# Altium integrated library TI Amplifiers and Linear Operational Amplifier Precision Amplifier Part Two.IntLib: 2300 symbols (part 25 of 81)
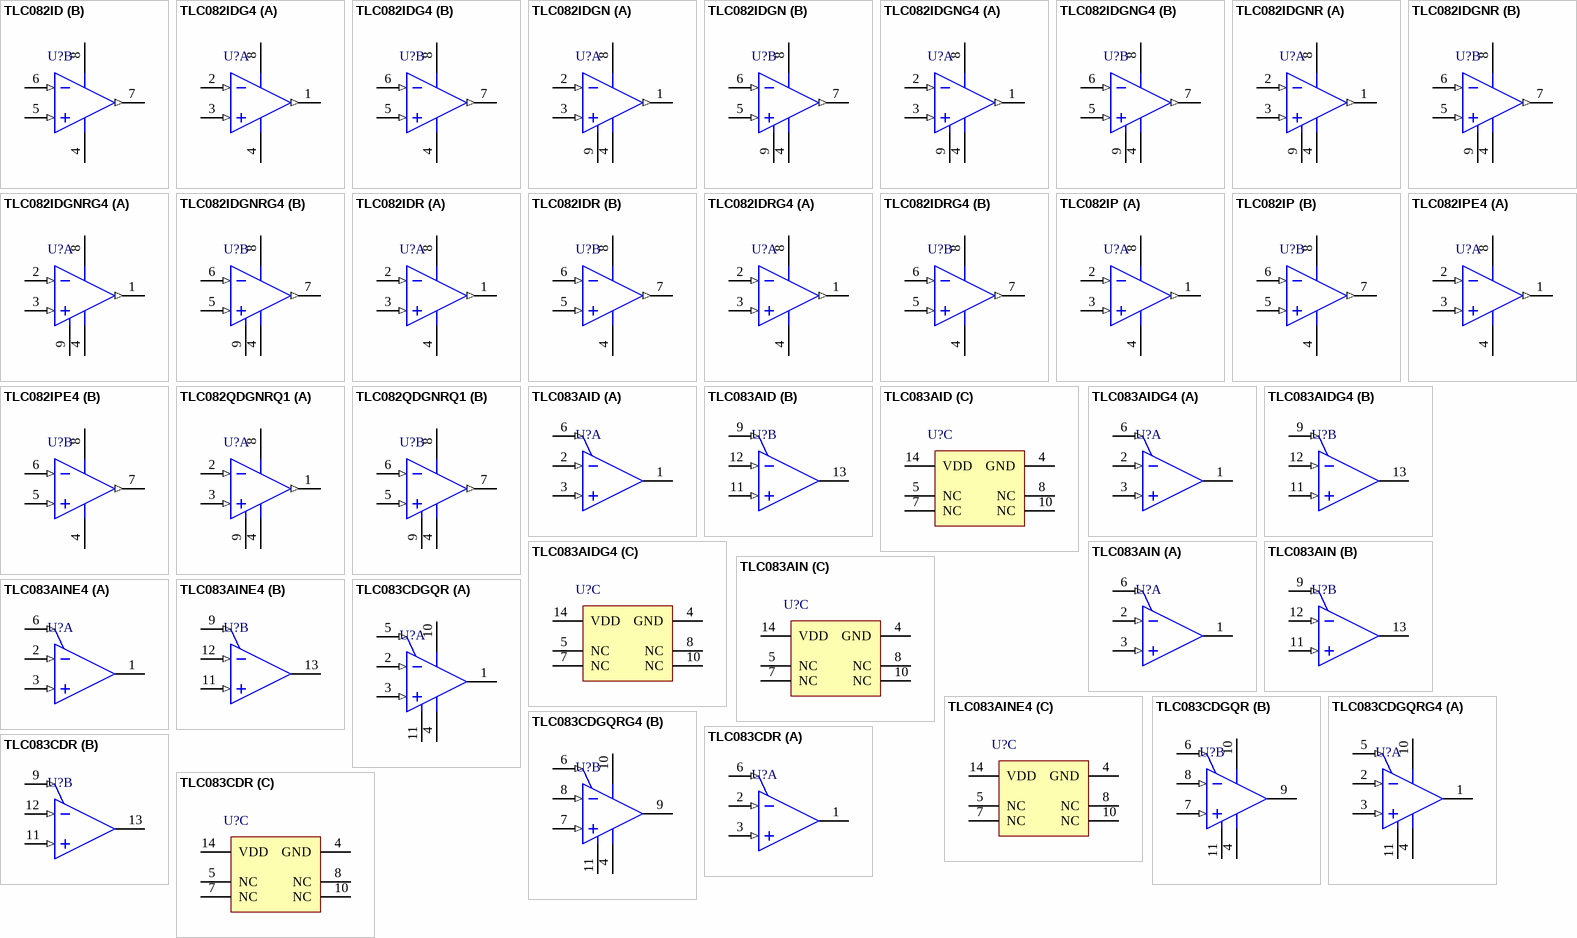
[diagram p160: symbols TLC082ID to TLC083CDR]

## TLC083AIN
designator U?
Dual Wide Bandwidth High Output Drive Single Supply Operational Amplifier with Shutdown, 4.5 to 16 V, -40 to 125 degC, 14-pin DIP (N14), Pb-Free (RoHS); Manufacturer: Texas Instruments; PartNumber: TLC083AIN; CMRR(Min)(dB): 80; GBW(Typ)(MHz): 10; IIB(Max)(pA): 50; Iq per channel(Max)(mA): 2.5; Number of Channels: 2; Offset Drift(Typ)(uV/C): 1.2; Packing: TUBE; Rating: Catalog; Slew Rate(Typ)(V/us): 16; Sub Family: High Output Current Amplifier (>=50mA), Low Noise Amp (<=10nV/rtHz), Precision Amplifier; Total Supply Voltage(Min)(+5V is 5, +/-5V is 10): 4.5; Vio (25C)(Max)(mV): 1.4; DatasheetVersion: SLOS254F; PackageVersion: 4040049/E, 12/2002; PackageReference: N14; PackageDescription: 14-Pin Plastic In-Line, Body 19.305 x 6.35 mm, Pitch 2.54 mm; Supplier 1: Digi-Key; Supplier Part Number 1: 296-7274-5-ND; Supplier 2: Mouser; Supplier Part Number 2: 595-TLC083AIN; Eco-Plan: Pb-Free (RoHS); Total Supply Voltage(Max)(+5V is 5, +/-5V is 10): 16; Mounting Technology: Through Hole; Code_JEDEC: MS-001; ComponentLink1Description: Manufacturer URL; ComponentLink1URL: http://www.ti.com/; ComponentLink2Description: Datasheet; ComponentLink2URL: http://www.ti.com/lit/ds/symlink/tlc083a.pdf; ComponentLink3Description: Package Specification; ComponentLink3URL: http://www.ti.com/lit/ml/mpdi002c/mpdi002c.pdf
footprint TI-N14 (DIP, 14-Leads, Body 19.305x6.35 mm, Pitch 2.54 mm)
part A pins: 1 OUT1 (hiz), 2 IN1- (in), 3 IN1+ (in), 6 ~{SHDN1} (in)
part B pins: 9 ~{SHDN2} (in), 11 IN2+ (in), 12 IN2- (in), 13 OUT2 (hiz)
part C pins: 4 GND (power), 5 NC, 7 NC, 8 NC, 10 NC, 14 VDD (power)

## TLC083AINE4
designator U?
Dual Wide Bandwidth High Output Drive Single Supply Operational Amplifier with Shutdown, 4.5 to 16 V, -40 to 125 degC, 14-pin DIP (N14), Pb-Free (RoHS); Manufacturer: Texas Instruments; PartNumber: TLC083AINE4; CMRR(Min)(dB): 80; GBW(Typ)(MHz): 10; IIB(Max)(pA): 50; Iq per channel(Max)(mA): 2.5; Number of Channels: 2; Offset Drift(Typ)(uV/C): 1.2; Packing: TUBE; Rating: Catalog; Slew Rate(Typ)(V/us): 16; Sub Family: High Output Current Amplifier (>=50mA), Low Noise Amp (<=10nV/rtHz), Precision Amplifier; Total Supply Voltage(Min)(+5V is 5, +/-5V is 10): 4.5; Vio (25C)(Max)(mV): 1.4; DatasheetVersion: SLOS254F; PackageVersion: 4040049/E, 12/2002; PackageReference: N14; PackageDescription: 14-Pin Plastic In-Line, Body 19.305 x 6.35 mm, Pitch 2.54 mm; Supplier 1: Digi-Key; Supplier Part Number 1: TLC083AINE4-ND; Supplier 2: Mouser; Supplier Part Number 2: 595-TLC083AINE4; Eco-Plan: Pb-Free (RoHS); Total Supply Voltage(Max)(+5V is 5, +/-5V is 10): 16; Mounting Technology: Through Hole; Code_JEDEC: MS-001; ComponentLink1Description: Manufacturer URL; ComponentLink1URL: http://www.ti.com/; ComponentLink2Description: Datasheet; ComponentLink2URL: http://www.ti.com/lit/ds/symlink/tlc083a.pdf; ComponentLink3Description: Package Specification; ComponentLink3URL: http://www.ti.com/lit/ml/mpdi002c/mpdi002c.pdf
footprint TI-N14 (DIP, 14-Leads, Body 19.305x6.35 mm, Pitch 2.54 mm)
part A pins: 1 OUT1 (hiz), 2 IN1- (in), 3 IN1+ (in), 6 ~{SHDN1} (in)
part B pins: 9 ~{SHDN2} (in), 11 IN2+ (in), 12 IN2- (in), 13 OUT2 (hiz)
part C pins: 4 GND (power), 5 NC, 7 NC, 8 NC, 10 NC, 14 VDD (power)

## TLC083CDGQR
designator U?
Dual Wide Bandwidth High Output Drive Single Supply Operational Amplifier with Shutdown, 4.5 to 16 V, 0 to 70 degC, 10-pin SOP (DGQ10), Green (RoHS & no Sb/Br); Manufacturer: Texas Instruments; PartNumber: TLC083CDGQR; CMRR(Min)(dB): 80; GBW(Typ)(MHz): 10; IIB(Max)(pA): 50; Iq per channel(Max)(mA): 2.5; Number of Channels: 2; Offset Drift(Typ)(uV/C): 1.2; Packing: LARGE T&R; Rating: Catalog; Slew Rate(Typ)(V/us): 16; Sub Family: High Output Current Amplifier (>=50mA), Low Noise Amp (<=10nV/rtHz), Precision Amplifier; Total Supply Voltage(Min)(+5V is 5, +/-5V is 10): 4.5; Vio (25C)(Max)(mV): 1.9; DatasheetVersion: SLOS254F; PackageVersion: 4073273/F, 11/2011; PackageReference: DGQ10-1675X1445TP; PackageDescription: 10-Pin Plastic Small Outline, Body 3 x 3 mm, Pitch 0.5 mm; Supplier 1: Digi-Key; Supplier Part Number 1: 296-7275-2-ND; Supplier 2: Digi-Key; Supplier Part Number 2: 296-7275-1-ND; Supplier 3: Digi-Key; Supplier Part Number 3: 296-7275-6-ND; Supplier 4: Newark; Supplier Part Number 4: 76C6744; Supplier 5: Mouser; Supplier Part Number 5: 595-TLC083CDGQR; Eco-Plan: Green (RoHS & no Sb/Br); Total Supply Voltage(Max)(+5V is 5, +/-5V is 10): 16; Mounting Technology: Surface Mount; Code_JEDEC: MO-187; ComponentLink1Description: Manufacturer URL; ComponentLink1URL: http://www.ti.com/; ComponentLink2Description: Datasheet; ComponentLink2URL: http://www.ti.com/lit/ds/symlink/tlc083.pdf; ComponentLink3Description: Package Specification; ComponentLink3URL: http://www.ti.com/litv/pdf/mpds043e
footprint TI-DGQ10-1675X1445TP_N (SOP, 10-Leads, Body 3x3mm, Pitch 0.5mm, Thermal Pad 1.88x1.57mm, IPC Medium Density)
footprint TI-DGQ10-1675X1445TP_L (SOP, 10-Leads, Body 3x3mm, Pitch 0.5mm, Thermal Pad 1.88x1.57mm, IPC High Density)
footprint TI-DGQ10-1675X1445TP_M (SOP, 10-Leads, Body 3x3mm, Pitch 0.5mm, Thermal Pad 1.88x1.57mm, IPC Low Density)
pins on every part: 4 GND (power), 10 VDD (power), 11 EP (power)
part A pins: 1 OUT1 (hiz), 2 IN1- (in), 3 IN1+ (in), 5 ~{SHDN1} (in)
part B pins: 6 ~{SHDN2} (in), 7 IN2+ (in), 8 IN2- (in), 9 OUT2 (hiz)

## TLC083CDGQRG4
designator U?
Dual Wide Bandwidth High Output Drive Single Supply Operational Amplifier with Shutdown, 4.5 to 16 V, 0 to 70 degC, 10-pin SOP (DGQ10), Green (RoHS & no Sb/Br); Manufacturer: Texas Instruments; PartNumber: TLC083CDGQRG4; CMRR(Min)(dB): 80; GBW(Typ)(MHz): 10; IIB(Max)(pA): 50; Iq per channel(Max)(mA): 2.5; Number of Channels: 2; Offset Drift(Typ)(uV/C): 1.2; Packing: LARGE T&R; Rating: Catalog; Slew Rate(Typ)(V/us): 16; Sub Family: High Output Current Amplifier (>=50mA), Low Noise Amp (<=10nV/rtHz), Precision Amplifier; Total Supply Voltage(Min)(+5V is 5, +/-5V is 10): 4.5; Vio (25C)(Max)(mV): 1.9; DatasheetVersion: SLOS254F; PackageVersion: 4073273/F, 11/2011; PackageReference: DGQ10-1675X1445TP; PackageDescription: 10-Pin Plastic Small Outline, Body 3 x 3 mm, Pitch 0.5 mm; Supplier 1: Digi-Key; Supplier Part Number 1: TLC083CDGQRG4-ND; Supplier 2: Mouser; Supplier Part Number 2: 595-TLC083CDGQRG4; Eco-Plan: Green (RoHS & no Sb/Br); Total Supply Voltage(Max)(+5V is 5, +/-5V is 10): 16; Mounting Technology: Surface Mount; Code_JEDEC: MO-187; ComponentLink1Description: Manufacturer URL; ComponentLink1URL: http://www.ti.com/; ComponentLink2Description: Datasheet; ComponentLink2URL: http://www.ti.com/lit/ds/symlink/tlc083.pdf; ComponentLink3Description: Package Specification; ComponentLink3URL: http://www.ti.com/litv/pdf/mpds043e
footprint TI-DGQ10-1675X1445TP_N (SOP, 10-Leads, Body 3x3mm, Pitch 0.5mm, Thermal Pad 1.88x1.57mm, IPC Medium Density)
footprint TI-DGQ10-1675X1445TP_L (SOP, 10-Leads, Body 3x3mm, Pitch 0.5mm, Thermal Pad 1.88x1.57mm, IPC High Density)
footprint TI-DGQ10-1675X1445TP_M (SOP, 10-Leads, Body 3x3mm, Pitch 0.5mm, Thermal Pad 1.88x1.57mm, IPC Low Density)
pins on every part: 4 GND (power), 10 VDD (power), 11 EP (power)
part A pins: 1 OUT1 (hiz), 2 IN1- (in), 3 IN1+ (in), 5 ~{SHDN1} (in)
part B pins: 6 ~{SHDN2} (in), 7 IN2+ (in), 8 IN2- (in), 9 OUT2 (hiz)

## TLC083CDR
designator U?
Dual Wide Bandwidth High Output Drive Single Supply Operational Amplifier with Shutdown, 4.5 to 16 V, 0 to 70 degC, 14-pin SOIC (D14), Green (RoHS & no Sb/Br); Manufacturer: Texas Instruments; PartNumber: TLC083CDR; CMRR(Min)(dB): 80; GBW(Typ)(MHz): 10; IIB(Max)(pA): 50; Iq per channel(Max)(mA): 2.5; Number of Channels: 2; Offset Drift(Typ)(uV/C): 1.2; Packing: LARGE T&R; Rating: Catalog; Slew Rate(Typ)(V/us): 16; Sub Family: High Output Current Amplifier (>=50mA), Low Noise Amp (<=10nV/rtHz), Precision Amplifier; Total Supply Voltage(Min)(+5V is 5, +/-5V is 10): 4.5; Vio (25C)(Max)(mV): 1.9; DatasheetVersion: SLOS254F; PackageVersion: 4040047-5/M, 06/2011; PackageReference: D14; PackageDescription: 14-Pin Plastic Small Outline, Body 8.65 x 3.9 mm, Pitch 1.27 mm; Supplier 1: Digi-Key; Supplier Part Number 1: 296-2422-2-ND; Supplier 2: Digi-Key; Supplier Part Number 2: 296-2422-1-ND; Supplier 3: Digi-Key; Supplier Part Number 3: 296-2422-6-ND; Supplier 4: Mouser; Supplier Part Number 4: 595-TLC083CDR; Eco-Plan: Green (RoHS & no Sb/Br); Total Supply Voltage(Max)(+5V is 5, +/-5V is 10): 16; Mounting Technology: Surface Mount; Code_JEDEC: MS-012; ComponentLink1Description: Manufacturer URL; ComponentLink1URL: http://www.ti.com/; ComponentLink2Description: Datasheet; ComponentLink2URL: http://www.ti.com/lit/ds/symlink/tlc083.pdf; ComponentLink3Description: Package Specification; ComponentLink3URL: http://www.ti.com/lit/ml/mpds177g/mpds177g.pdf
footprint TI-D14_N (SOIC, 14-Leads, Body 8.65x3.9mm, Pitch 1.27mm, IPC Medium Density)
footprint TI-D14_L (SOIC, 14-Leads, Body 8.65x3.9mm, Pitch 1.27mm, IPC High Density)
footprint TI-D14_M (SOIC, 14-Leads, Body 8.65x3.9mm, Pitch 1.27mm, IPC Low Density)
part A pins: 1 OUT1 (hiz), 2 IN1- (in), 3 IN1+ (in), 6 ~{SHDN1} (in)
part B pins: 9 ~{SHDN2} (in), 11 IN2+ (in), 12 IN2- (in), 13 OUT2 (hiz)
part C pins: 4 GND (power), 5 NC, 7 NC, 8 NC, 10 NC, 14 VDD (power)

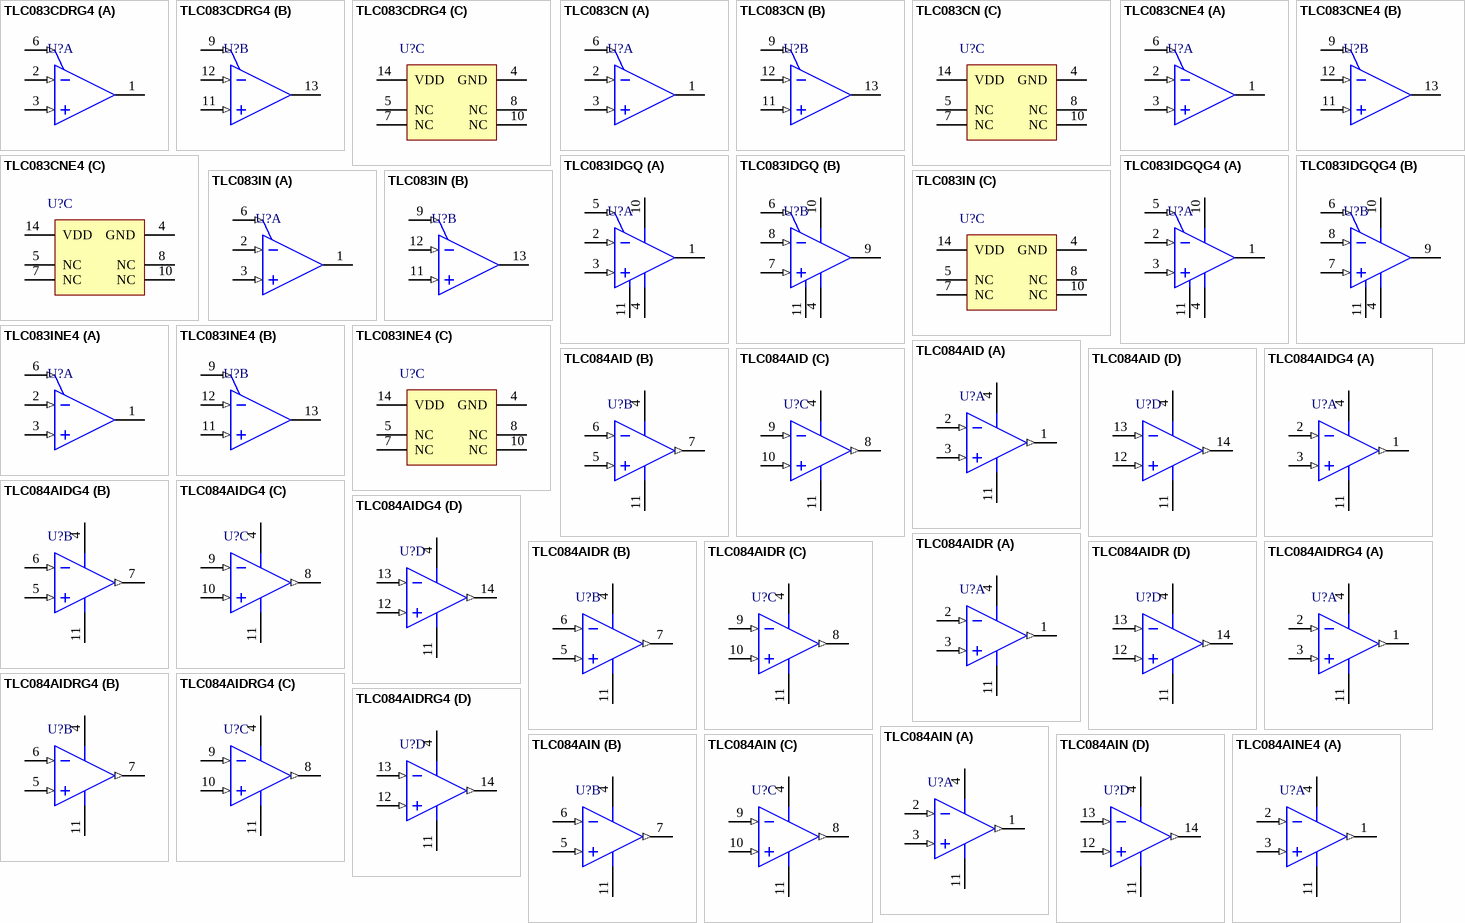
[diagram p40: symbols TLC083CDRG4 to TLC084AINE4]

## TLC083CDRG4
designator U?
Dual Wide Bandwidth High Output Drive Single Supply Operational Amplifier with Shutdown, 4.5 to 16 V, 0 to 70 degC, 14-pin SOIC (D14), Green (RoHS & no Sb/Br); Manufacturer: Texas Instruments; PartNumber: TLC083CDRG4; CMRR(Min)(dB): 80; GBW(Typ)(MHz): 10; IIB(Max)(pA): 50; Iq per channel(Max)(mA): 2.5; Number of Channels: 2; Offset Drift(Typ)(uV/C): 1.2; Packing: LARGE T&R; Rating: Catalog; Slew Rate(Typ)(V/us): 16; Sub Family: High Output Current Amplifier (>=50mA), Low Noise Amp (<=10nV/rtHz), Precision Amplifier; Total Supply Voltage(Min)(+5V is 5, +/-5V is 10): 4.5; Vio (25C)(Max)(mV): 1.9; DatasheetVersion: SLOS254F; PackageVersion: 4040047-5/M, 06/2011; PackageReference: D14; PackageDescription: 14-Pin Plastic Small Outline, Body 8.65 x 3.9 mm, Pitch 1.27 mm; Supplier 1: Digi-Key; Supplier Part Number 1: TLC083CDRG4-ND; Supplier 2: Mouser; Supplier Part Number 2: 595-TLC083CDRG4; Eco-Plan: Green (RoHS & no Sb/Br); Total Supply Voltage(Max)(+5V is 5, +/-5V is 10): 16; Mounting Technology: Surface Mount; Code_JEDEC: MS-012; ComponentLink1Description: Manufacturer URL; ComponentLink1URL: http://www.ti.com/; ComponentLink2Description: Datasheet; ComponentLink2URL: http://www.ti.com/lit/ds/symlink/tlc083.pdf; ComponentLink3Description: Package Specification; ComponentLink3URL: http://www.ti.com/lit/ml/mpds177g/mpds177g.pdf
footprint TI-D14_N (SOIC, 14-Leads, Body 8.65x3.9mm, Pitch 1.27mm, IPC Medium Density)
footprint TI-D14_L (SOIC, 14-Leads, Body 8.65x3.9mm, Pitch 1.27mm, IPC High Density)
footprint TI-D14_M (SOIC, 14-Leads, Body 8.65x3.9mm, Pitch 1.27mm, IPC Low Density)
part A pins: 1 OUT1 (hiz), 2 IN1- (in), 3 IN1+ (in), 6 ~{SHDN1} (in)
part B pins: 9 ~{SHDN2} (in), 11 IN2+ (in), 12 IN2- (in), 13 OUT2 (hiz)
part C pins: 4 GND (power), 5 NC, 7 NC, 8 NC, 10 NC, 14 VDD (power)

## TLC083CN
designator U?
Dual Wide Bandwidth High Output Drive Single Supply Operational Amplifier with Shutdown, 4.5 to 16 V, 0 to 70 degC, 14-pin DIP (N14), Pb-Free (RoHS); Manufacturer: Texas Instruments; PartNumber: TLC083CN; CMRR(Min)(dB): 80; GBW(Typ)(MHz): 10; IIB(Max)(pA): 50; Iq per channel(Max)(mA): 2.5; Number of Channels: 2; Offset Drift(Typ)(uV/C): 1.2; Packing: TUBE; Rating: Catalog; Slew Rate(Typ)(V/us): 16; Sub Family: High Output Current Amplifier (>=50mA), Low Noise Amp (<=10nV/rtHz), Precision Amplifier; Total Supply Voltage(Min)(+5V is 5, +/-5V is 10): 4.5; Vio (25C)(Max)(mV): 1.9; DatasheetVersion: SLOS254F; PackageVersion: 4040049/E, 12/2002; PackageReference: N14; PackageDescription: 14-Pin Plastic In-Line, Body 19.305 x 6.35 mm, Pitch 2.54 mm; Supplier 1: Digi-Key; Supplier Part Number 1: 296-7276-5-ND; Supplier 2: Mouser; Supplier Part Number 2: 595-TLC083CN; Eco-Plan: Pb-Free (RoHS); Total Supply Voltage(Max)(+5V is 5, +/-5V is 10): 16; Mounting Technology: Through Hole; Code_JEDEC: MS-001; ComponentLink1Description: Manufacturer URL; ComponentLink1URL: http://www.ti.com/; ComponentLink2Description: Datasheet; ComponentLink2URL: http://www.ti.com/lit/ds/symlink/tlc083.pdf; ComponentLink3Description: Package Specification; ComponentLink3URL: http://www.ti.com/lit/ml/mpdi002c/mpdi002c.pdf
footprint TI-N14 (DIP, 14-Leads, Body 19.305x6.35 mm, Pitch 2.54 mm)
part A pins: 1 OUT1 (hiz), 2 IN1- (in), 3 IN1+ (in), 6 ~{SHDN1} (in)
part B pins: 9 ~{SHDN2} (in), 11 IN2+ (in), 12 IN2- (in), 13 OUT2 (hiz)
part C pins: 4 GND (power), 5 NC, 7 NC, 8 NC, 10 NC, 14 VDD (power)

## TLC083CNE4
designator U?
Dual Wide Bandwidth High Output Drive Single Supply Operational Amplifier with Shutdown, 4.5 to 16 V, 0 to 70 degC, 14-pin DIP (N14), Pb-Free (RoHS); Manufacturer: Texas Instruments; PartNumber: TLC083CNE4; CMRR(Min)(dB): 80; GBW(Typ)(MHz): 10; IIB(Max)(pA): 50; Iq per channel(Max)(mA): 2.5; Number of Channels: 2; Offset Drift(Typ)(uV/C): 1.2; Packing: TUBE; Rating: Catalog; Slew Rate(Typ)(V/us): 16; Sub Family: High Output Current Amplifier (>=50mA), Low Noise Amp (<=10nV/rtHz), Precision Amplifier; Total Supply Voltage(Min)(+5V is 5, +/-5V is 10): 4.5; Vio (25C)(Max)(mV): 1.9; DatasheetVersion: SLOS254F; PackageVersion: 4040049/E, 12/2002; PackageReference: N14; PackageDescription: 14-Pin Plastic In-Line, Body 19.305 x 6.35 mm, Pitch 2.54 mm; Supplier 1: Digi-Key; Supplier Part Number 1: TLC083CNE4-ND; Supplier 2: Newark; Supplier Part Number 2: 24K5127; Supplier 3: Mouser; Supplier Part Number 3: 595-TLC083CNE4; Eco-Plan: Pb-Free (RoHS); Total Supply Voltage(Max)(+5V is 5, +/-5V is 10): 16; Mounting Technology: Through Hole; Code_JEDEC: MS-001; ComponentLink1Description: Manufacturer URL; ComponentLink1URL: http://www.ti.com/; ComponentLink2Description: Datasheet; ComponentLink2URL: http://www.ti.com/lit/ds/symlink/tlc083.pdf; ComponentLink3Description: Package Specification; ComponentLink3URL: http://www.ti.com/lit/ml/mpdi002c/mpdi002c.pdf
footprint TI-N14 (DIP, 14-Leads, Body 19.305x6.35 mm, Pitch 2.54 mm)
part A pins: 1 OUT1 (hiz), 2 IN1- (in), 3 IN1+ (in), 6 ~{SHDN1} (in)
part B pins: 9 ~{SHDN2} (in), 11 IN2+ (in), 12 IN2- (in), 13 OUT2 (hiz)
part C pins: 4 GND (power), 5 NC, 7 NC, 8 NC, 10 NC, 14 VDD (power)

## TLC083IDGQ
designator U?
Dual Wide Bandwidth High Output Drive Single Supply Operational Amplifier with Shutdown, 4.5 to 16 V, -40 to 125 degC, 10-pin SOP (DGQ10), Green (RoHS & no Sb/Br); Manufacturer: Texas Instruments; PartNumber: TLC083IDGQ; CMRR(Min)(dB): 80; GBW(Typ)(MHz): 10; IIB(Max)(pA): 50; Iq per channel(Max)(mA): 2.5; Number of Channels: 2; Offset Drift(Typ)(uV/C): 1.2; Packing: TUBE; Rating: Catalog; Slew Rate(Typ)(V/us): 16; Sub Family: High Output Current Amplifier (>=50mA), Low Noise Amp (<=10nV/rtHz), Precision Amplifier; Total Supply Voltage(Min)(+5V is 5, +/-5V is 10): 4.5; Vio (25C)(Max)(mV): 1.9; DatasheetVersion: SLOS254F; PackageVersion: 4073273/F, 11/2011; PackageReference: DGQ10-1675X1445TP; PackageDescription: 10-Pin Plastic Small Outline, Body 3 x 3 mm, Pitch 0.5 mm; Supplier 1: Digi-Key; Supplier Part Number 1: 296-7278-5-ND; Supplier 2: Newark; Supplier Part Number 2: 76C6748; Supplier 3: Mouser; Supplier Part Number 3: 595-TLC083IDGQ; Eco-Plan: Green (RoHS & no Sb/Br); Total Supply Voltage(Max)(+5V is 5, +/-5V is 10): 16; Mounting Technology: Surface Mount; Code_JEDEC: MO-187; ComponentLink1Description: Manufacturer URL; ComponentLink1URL: http://www.ti.com/; ComponentLink2Description: Datasheet; ComponentLink2URL: http://www.ti.com/lit/ds/symlink/tlc083.pdf; ComponentLink3Description: Package Specification; ComponentLink3URL: http://www.ti.com/litv/pdf/mpds043e
footprint TI-DGQ10-1675X1445TP_N (SOP, 10-Leads, Body 3x3mm, Pitch 0.5mm, Thermal Pad 1.88x1.57mm, IPC Medium Density)
footprint TI-DGQ10-1675X1445TP_L (SOP, 10-Leads, Body 3x3mm, Pitch 0.5mm, Thermal Pad 1.88x1.57mm, IPC High Density)
footprint TI-DGQ10-1675X1445TP_M (SOP, 10-Leads, Body 3x3mm, Pitch 0.5mm, Thermal Pad 1.88x1.57mm, IPC Low Density)
pins on every part: 4 GND (power), 10 VDD (power), 11 EP (power)
part A pins: 1 OUT1 (hiz), 2 IN1- (in), 3 IN1+ (in), 5 ~{SHDN1} (in)
part B pins: 6 ~{SHDN2} (in), 7 IN2+ (in), 8 IN2- (in), 9 OUT2 (hiz)

## TLC083IDGQG4
designator U?
Dual Wide Bandwidth High Output Drive Single Supply Operational Amplifier with Shutdown, 4.5 to 16 V, -40 to 125 degC, 10-pin SOP (DGQ10), Green (RoHS & no Sb/Br); Manufacturer: Texas Instruments; PartNumber: TLC083IDGQG4; CMRR(Min)(dB): 80; GBW(Typ)(MHz): 10; IIB(Max)(pA): 50; Iq per channel(Max)(mA): 2.5; Number of Channels: 2; Offset Drift(Typ)(uV/C): 1.2; Packing: TUBE; Rating: Catalog; Slew Rate(Typ)(V/us): 16; Sub Family: High Output Current Amplifier (>=50mA), Low Noise Amp (<=10nV/rtHz), Precision Amplifier; Total Supply Voltage(Min)(+5V is 5, +/-5V is 10): 4.5; Vio (25C)(Max)(mV): 1.9; DatasheetVersion: SLOS254F; PackageVersion: 4073273/F, 11/2011; PackageReference: DGQ10-1675X1445TP; PackageDescription: 10-Pin Plastic Small Outline, Body 3 x 3 mm, Pitch 0.5 mm; Supplier 1: Digi-Key; Supplier Part Number 1: TLC083IDGQG4-ND; Supplier 2: Mouser; Supplier Part Number 2: 595-TLC083IDGQG4; Eco-Plan: Green (RoHS & no Sb/Br); Total Supply Voltage(Max)(+5V is 5, +/-5V is 10): 16; Mounting Technology: Surface Mount; Code_JEDEC: MO-187; ComponentLink1Description: Manufacturer URL; ComponentLink1URL: http://www.ti.com/; ComponentLink2Description: Datasheet; ComponentLink2URL: http://www.ti.com/lit/ds/symlink/tlc083.pdf; ComponentLink3Description: Package Specification; ComponentLink3URL: http://www.ti.com/litv/pdf/mpds043e
footprint TI-DGQ10-1675X1445TP_N (SOP, 10-Leads, Body 3x3mm, Pitch 0.5mm, Thermal Pad 1.88x1.57mm, IPC Medium Density)
footprint TI-DGQ10-1675X1445TP_L (SOP, 10-Leads, Body 3x3mm, Pitch 0.5mm, Thermal Pad 1.88x1.57mm, IPC High Density)
footprint TI-DGQ10-1675X1445TP_M (SOP, 10-Leads, Body 3x3mm, Pitch 0.5mm, Thermal Pad 1.88x1.57mm, IPC Low Density)
pins on every part: 4 GND (power), 10 VDD (power), 11 EP (power)
part A pins: 1 OUT1 (hiz), 2 IN1- (in), 3 IN1+ (in), 5 ~{SHDN1} (in)
part B pins: 6 ~{SHDN2} (in), 7 IN2+ (in), 8 IN2- (in), 9 OUT2 (hiz)

## TLC083IN
designator U?
Dual Wide Bandwidth High Output Drive Single Supply Operational Amplifier with Shutdown, 4.5 to 16 V, -40 to 125 degC, 14-pin DIP (N14), Pb-Free (RoHS); Manufacturer: Texas Instruments; PartNumber: TLC083IN; CMRR(Min)(dB): 80; GBW(Typ)(MHz): 10; IIB(Max)(pA): 50; Iq per channel(Max)(mA): 2.5; Number of Channels: 2; Offset Drift(Typ)(uV/C): 1.2; Packing: TUBE; Rating: Catalog; Slew Rate(Typ)(V/us): 16; Sub Family: High Output Current Amplifier (>=50mA), Low Noise Amp (<=10nV/rtHz), Precision Amplifier; Total Supply Voltage(Min)(+5V is 5, +/-5V is 10): 4.5; Vio (25C)(Max)(mV): 1.9; DatasheetVersion: SLOS254F; PackageVersion: 4040049/E, 12/2002; PackageReference: N14; PackageDescription: 14-Pin Plastic In-Line, Body 19.305 x 6.35 mm, Pitch 2.54 mm; Supplier 1: Digi-Key; Supplier Part Number 1: 296-7279-5-ND; Supplier 2: Mouser; Supplier Part Number 2: 595-TLC083IN; Eco-Plan: Pb-Free (RoHS); Total Supply Voltage(Max)(+5V is 5, +/-5V is 10): 16; Mounting Technology: Through Hole; Code_JEDEC: MS-001; ComponentLink1Description: Manufacturer URL; ComponentLink1URL: http://www.ti.com/; ComponentLink2Description: Datasheet; ComponentLink2URL: http://www.ti.com/lit/ds/symlink/tlc083.pdf; ComponentLink3Description: Package Specification; ComponentLink3URL: http://www.ti.com/lit/ml/mpdi002c/mpdi002c.pdf
footprint TI-N14 (DIP, 14-Leads, Body 19.305x6.35 mm, Pitch 2.54 mm)
part A pins: 1 OUT1 (hiz), 2 IN1- (in), 3 IN1+ (in), 6 ~{SHDN1} (in)
part B pins: 9 ~{SHDN2} (in), 11 IN2+ (in), 12 IN2- (in), 13 OUT2 (hiz)
part C pins: 4 GND (power), 5 NC, 7 NC, 8 NC, 10 NC, 14 VDD (power)

## TLC083INE4
designator U?
Dual Wide Bandwidth High Output Drive Single Supply Operational Amplifier with Shutdown, 4.5 to 16 V, -40 to 125 degC, 14-pin DIP (N14), Pb-Free (RoHS); Manufacturer: Texas Instruments; PartNumber: TLC083INE4; CMRR(Min)(dB): 80; GBW(Typ)(MHz): 10; IIB(Max)(pA): 50; Iq per channel(Max)(mA): 2.5; Number of Channels: 2; Offset Drift(Typ)(uV/C): 1.2; Packing: TUBE; Rating: Catalog; Slew Rate(Typ)(V/us): 16; Sub Family: High Output Current Amplifier (>=50mA), Low Noise Amp (<=10nV/rtHz), Precision Amplifier; Total Supply Voltage(Min)(+5V is 5, +/-5V is 10): 4.5; Vio (25C)(Max)(mV): 1.9; DatasheetVersion: SLOS254F; PackageVersion: 4040049/E, 12/2002; PackageReference: N14; PackageDescription: 14-Pin Plastic In-Line, Body 19.305 x 6.35 mm, Pitch 2.54 mm; Supplier 1: Digi-Key; Supplier Part Number 1: TLC083INE4-ND; Supplier 2: Mouser; Supplier Part Number 2: 595-TLC083INE4; Eco-Plan: Pb-Free (RoHS); Total Supply Voltage(Max)(+5V is 5, +/-5V is 10): 16; Mounting Technology: Through Hole; Code_JEDEC: MS-001; ComponentLink1Description: Manufacturer URL; ComponentLink1URL: http://www.ti.com/; ComponentLink2Description: Datasheet; ComponentLink2URL: http://www.ti.com/lit/ds/symlink/tlc083.pdf; ComponentLink3Description: Package Specification; ComponentLink3URL: http://www.ti.com/lit/ml/mpdi002c/mpdi002c.pdf
footprint TI-N14 (DIP, 14-Leads, Body 19.305x6.35 mm, Pitch 2.54 mm)
part A pins: 1 OUT1 (hiz), 2 IN1- (in), 3 IN1+ (in), 6 ~{SHDN1} (in)
part B pins: 9 ~{SHDN2} (in), 11 IN2+ (in), 12 IN2- (in), 13 OUT2 (hiz)
part C pins: 4 GND (power), 5 NC, 7 NC, 8 NC, 10 NC, 14 VDD (power)

## TLC084AID
designator U?
Quad Wide Bandwidth High Output Drive Single Supply Operational Amplifier, 4.5 to 16 V, -40 to 125 degC, 14-pin SOIC (D14), Green (RoHS & no Sb/Br); Manufacturer: Texas Instruments; PartNumber: TLC084AID; CMRR(Min)(dB): 80; GBW(Typ)(MHz): 10; IIB(Max)(pA): 50; Iq per channel(Max)(mA): 2.5; Number of Channels: 4; Offset Drift(Typ)(uV/C): 1.2; Packing: TUBE; Rating: Catalog; Slew Rate(Typ)(V/us): 16; Sub Family: High Output Current Amplifier (>=50mA), Low Noise Amp (<=10nV/rtHz), Precision Amplifier; Total Supply Voltage(Min)(+5V is 5, +/-5V is 10): 4.5; Vio (25C)(Max)(mV): 1.4; DatasheetVersion: SLOS254F; PackageVersion: 4040047-5/M, 06/2011; PackageReference: D14; PackageDescription: 14-Pin Plastic Small Outline, Body 8.65 x 3.9 mm, Pitch 1.27 mm; Supplier 1: Digi-Key; Supplier Part Number 1: 296-7280-5-ND; Supplier 2: Farnell; Supplier Part Number 2: 1459730; Supplier 3: Newark; Supplier Part Number 3: 76C6764; Supplier 4: Mouser; Supplier Part Number 4: 595-TLC084AID; Eco-Plan: Green (RoHS & no Sb/Br); Total Supply Voltage(Max)(+5V is 5, +/-5V is 10): 16; Mounting Technology: Surface Mount; Code_JEDEC: MS-012; ComponentLink1Description: Manufacturer URL; ComponentLink1URL: http://www.ti.com/; ComponentLink2Description: Datasheet; ComponentLink2URL: http://www.ti.com/lit/ds/symlink/tlc084a.pdf; ComponentLink3Description: Package Specification; ComponentLink3URL: http://www.ti.com/lit/ml/mpds177g/mpds177g.pdf
footprint TI-D14_N (SOIC, 14-Leads, Body 8.65x3.9mm, Pitch 1.27mm, IPC Medium Density)
footprint TI-D14_L (SOIC, 14-Leads, Body 8.65x3.9mm, Pitch 1.27mm, IPC High Density)
footprint TI-D14_M (SOIC, 14-Leads, Body 8.65x3.9mm, Pitch 1.27mm, IPC Low Density)
pins on every part: 4 VDD (power), 11 GND (power)
part A pins: 1 OUT1 (out), 2 IN1- (in), 3 IN1+ (in)
part B pins: 5 IN2+ (in), 6 IN2- (in), 7 OUT2 (out)
part C pins: 8 OUT3 (out), 9 IN3- (in), 10 IN3+ (in)
part D pins: 12 IN4+ (in), 13 IN4- (in), 14 OUT4 (out)

## TLC084AIDG4
designator U?
Quad Wide Bandwidth High Output Drive Single Supply Operational Amplifier, 4.5 to 16 V, -40 to 125 degC, 14-pin SOIC (D14), Green (RoHS & no Sb/Br); Manufacturer: Texas Instruments; PartNumber: TLC084AIDG4; CMRR(Min)(dB): 80; GBW(Typ)(MHz): 10; IIB(Max)(pA): 50; Iq per channel(Max)(mA): 2.5; Number of Channels: 4; Offset Drift(Typ)(uV/C): 1.2; Packing: TUBE; Rating: Catalog; Slew Rate(Typ)(V/us): 16; Sub Family: High Output Current Amplifier (>=50mA), Low Noise Amp (<=10nV/rtHz), Precision Amplifier; Total Supply Voltage(Min)(+5V is 5, +/-5V is 10): 4.5; Vio (25C)(Max)(mV): 1.4; DatasheetVersion: SLOS254F; PackageVersion: 4040047-5/M, 06/2011; PackageReference: D14; PackageDescription: 14-Pin Plastic Small Outline, Body 8.65 x 3.9 mm, Pitch 1.27 mm; Supplier 1: Digi-Key; Supplier Part Number 1: TLC084AIDG4-ND; Supplier 2: Newark; Supplier Part Number 2: 54K0823; Supplier 3: Mouser; Supplier Part Number 3: 595-TLC084AIDG4; Eco-Plan: Green (RoHS & no Sb/Br); Total Supply Voltage(Max)(+5V is 5, +/-5V is 10): 16; Mounting Technology: Surface Mount; Code_JEDEC: MS-012; ComponentLink1Description: Manufacturer URL; ComponentLink1URL: http://www.ti.com/; ComponentLink2Description: Datasheet; ComponentLink2URL: http://www.ti.com/lit/ds/symlink/tlc084a.pdf; ComponentLink3Description: Package Specification; ComponentLink3URL: http://www.ti.com/lit/ml/mpds177g/mpds177g.pdf
footprint TI-D14_N (SOIC, 14-Leads, Body 8.65x3.9mm, Pitch 1.27mm, IPC Medium Density)
footprint TI-D14_L (SOIC, 14-Leads, Body 8.65x3.9mm, Pitch 1.27mm, IPC High Density)
footprint TI-D14_M (SOIC, 14-Leads, Body 8.65x3.9mm, Pitch 1.27mm, IPC Low Density)
pins on every part: 4 VDD (power), 11 GND (power)
part A pins: 1 OUT1 (out), 2 IN1- (in), 3 IN1+ (in)
part B pins: 5 IN2+ (in), 6 IN2- (in), 7 OUT2 (out)
part C pins: 8 OUT3 (out), 9 IN3- (in), 10 IN3+ (in)
part D pins: 12 IN4+ (in), 13 IN4- (in), 14 OUT4 (out)

## TLC084AIDR
designator U?
Quad Wide Bandwidth High Output Drive Single Supply Operational Amplifier, 4.5 to 16 V, -40 to 125 degC, 14-pin SOIC (D14), Green (RoHS & no Sb/Br); Manufacturer: Texas Instruments; PartNumber: TLC084AIDR; CMRR(Min)(dB): 80; GBW(Typ)(MHz): 10; IIB(Max)(pA): 50; Iq per channel(Max)(mA): 2.5; Number of Channels: 4; Offset Drift(Typ)(uV/C): 1.2; Packing: LARGE T&R; Rating: Catalog; Slew Rate(Typ)(V/us): 16; Sub Family: High Output Current Amplifier (>=50mA), Low Noise Amp (<=10nV/rtHz), Precision Amplifier; Total Supply Voltage(Min)(+5V is 5, +/-5V is 10): 4.5; Vio (25C)(Max)(mV): 1.4; DatasheetVersion: SLOS254F; PackageVersion: 4040047-5/M, 06/2011; PackageReference: D14; PackageDescription: 14-Pin Plastic Small Outline, Body 8.65 x 3.9 mm, Pitch 1.27 mm; Supplier 1: Digi-Key; Supplier Part Number 1: TLC084AIDR-ND; Supplier 2: Newark; Supplier Part Number 2: 76C6765; Supplier 3: Mouser; Supplier Part Number 3: 595-TLC084AIDR; Eco-Plan: Green (RoHS & no Sb/Br); Total Supply Voltage(Max)(+5V is 5, +/-5V is 10): 16; Mounting Technology: Surface Mount; Code_JEDEC: MS-012; ComponentLink1Description: Manufacturer URL; ComponentLink1URL: http://www.ti.com/; ComponentLink2Description: Datasheet; ComponentLink2URL: http://www.ti.com/lit/ds/symlink/tlc084a.pdf; ComponentLink3Description: Package Specification; ComponentLink3URL: http://www.ti.com/lit/ml/mpds177g/mpds177g.pdf
footprint TI-D14_N (SOIC, 14-Leads, Body 8.65x3.9mm, Pitch 1.27mm, IPC Medium Density)
footprint TI-D14_L (SOIC, 14-Leads, Body 8.65x3.9mm, Pitch 1.27mm, IPC High Density)
footprint TI-D14_M (SOIC, 14-Leads, Body 8.65x3.9mm, Pitch 1.27mm, IPC Low Density)
pins on every part: 4 VDD (power), 11 GND (power)
part A pins: 1 OUT1 (out), 2 IN1- (in), 3 IN1+ (in)
part B pins: 5 IN2+ (in), 6 IN2- (in), 7 OUT2 (out)
part C pins: 8 OUT3 (out), 9 IN3- (in), 10 IN3+ (in)
part D pins: 12 IN4+ (in), 13 IN4- (in), 14 OUT4 (out)

## TLC084AIDRG4
designator U?
Quad Wide Bandwidth High Output Drive Single Supply Operational Amplifier, 4.5 to 16 V, -40 to 125 degC, 14-pin SOIC (D14), Green (RoHS & no Sb/Br); Manufacturer: Texas Instruments; PartNumber: TLC084AIDRG4; CMRR(Min)(dB): 80; GBW(Typ)(MHz): 10; IIB(Max)(pA): 50; Iq per channel(Max)(mA): 2.5; Number of Channels: 4; Offset Drift(Typ)(uV/C): 1.2; Packing: LARGE T&R; Rating: Catalog; Slew Rate(Typ)(V/us): 16; Sub Family: High Output Current Amplifier (>=50mA), Low Noise Amp (<=10nV/rtHz), Precision Amplifier; Total Supply Voltage(Min)(+5V is 5, +/-5V is 10): 4.5; Vio (25C)(Max)(mV): 1.4; DatasheetVersion: SLOS254F; PackageVersion: 4040047-5/M, 06/2011; PackageReference: D14; PackageDescription: 14-Pin Plastic Small Outline, Body 8.65 x 3.9 mm, Pitch 1.27 mm; Supplier 1: Digi-Key; Supplier Part Number 1: TLC084AIDRG4-ND; Supplier 2: Mouser; Supplier Part Number 2: 595-TLC084AIDRG4; Eco-Plan: Green (RoHS & no Sb/Br); Total Supply Voltage(Max)(+5V is 5, +/-5V is 10): 16; Mounting Technology: Surface Mount; Code_JEDEC: MS-012; ComponentLink1Description: Manufacturer URL; ComponentLink1URL: http://www.ti.com/; ComponentLink2Description: Datasheet; ComponentLink2URL: http://www.ti.com/lit/ds/symlink/tlc084a.pdf; ComponentLink3Description: Package Specification; ComponentLink3URL: http://www.ti.com/lit/ml/mpds177g/mpds177g.pdf
footprint TI-D14_N (SOIC, 14-Leads, Body 8.65x3.9mm, Pitch 1.27mm, IPC Medium Density)
footprint TI-D14_L (SOIC, 14-Leads, Body 8.65x3.9mm, Pitch 1.27mm, IPC High Density)
footprint TI-D14_M (SOIC, 14-Leads, Body 8.65x3.9mm, Pitch 1.27mm, IPC Low Density)
pins on every part: 4 VDD (power), 11 GND (power)
part A pins: 1 OUT1 (out), 2 IN1- (in), 3 IN1+ (in)
part B pins: 5 IN2+ (in), 6 IN2- (in), 7 OUT2 (out)
part C pins: 8 OUT3 (out), 9 IN3- (in), 10 IN3+ (in)
part D pins: 12 IN4+ (in), 13 IN4- (in), 14 OUT4 (out)

## TLC084AIN
designator U?
Quad Wide Bandwidth High Output Drive Single Supply Operational Amplifier, 4.5 to 16 V, -40 to 125 degC, 14-pin DIP (N14), Pb-Free (RoHS); Manufacturer: Texas Instruments; PartNumber: TLC084AIN; CMRR(Min)(dB): 80; GBW(Typ)(MHz): 10; IIB(Max)(pA): 50; Iq per channel(Max)(mA): 2.5; Number of Channels: 4; Offset Drift(Typ)(uV/C): 1.2; Packing: TUBE; Rating: Catalog; Slew Rate(Typ)(V/us): 16; Sub Family: High Output Current Amplifier (>=50mA), Low Noise Amp (<=10nV/rtHz), Precision Amplifier; Total Supply Voltage(Min)(+5V is 5, +/-5V is 10): 4.5; Vio (25C)(Max)(mV): 1.4; DatasheetVersion: SLOS254F; PackageVersion: 4040049/E, 12/2002; PackageReference: N14; PackageDescription: 14-Pin Plastic In-Line, Body 19.305 x 6.35 mm, Pitch 2.54 mm; Supplier 1: Digi-Key; Supplier Part Number 1: 296-7281-5-ND; Supplier 2: Mouser; Supplier Part Number 2: 595-TLC084AIN; Eco-Plan: Pb-Free (RoHS); Total Supply Voltage(Max)(+5V is 5, +/-5V is 10): 16; Mounting Technology: Through Hole; Code_JEDEC: MS-001; ComponentLink1Description: Manufacturer URL; ComponentLink1URL: http://www.ti.com/; ComponentLink2Description: Datasheet; ComponentLink2URL: http://www.ti.com/lit/ds/symlink/tlc084a.pdf; ComponentLink3Description: Package Specification; ComponentLink3URL: http://www.ti.com/lit/ml/mpdi002c/mpdi002c.pdf
footprint TI-N14 (DIP, 14-Leads, Body 19.305x6.35 mm, Pitch 2.54 mm)
pins on every part: 4 VDD (power), 11 GND (power)
part A pins: 1 OUT1 (out), 2 IN1- (in), 3 IN1+ (in)
part B pins: 5 IN2+ (in), 6 IN2- (in), 7 OUT2 (out)
part C pins: 8 OUT3 (out), 9 IN3- (in), 10 IN3+ (in)
part D pins: 12 IN4+ (in), 13 IN4- (in), 14 OUT4 (out)

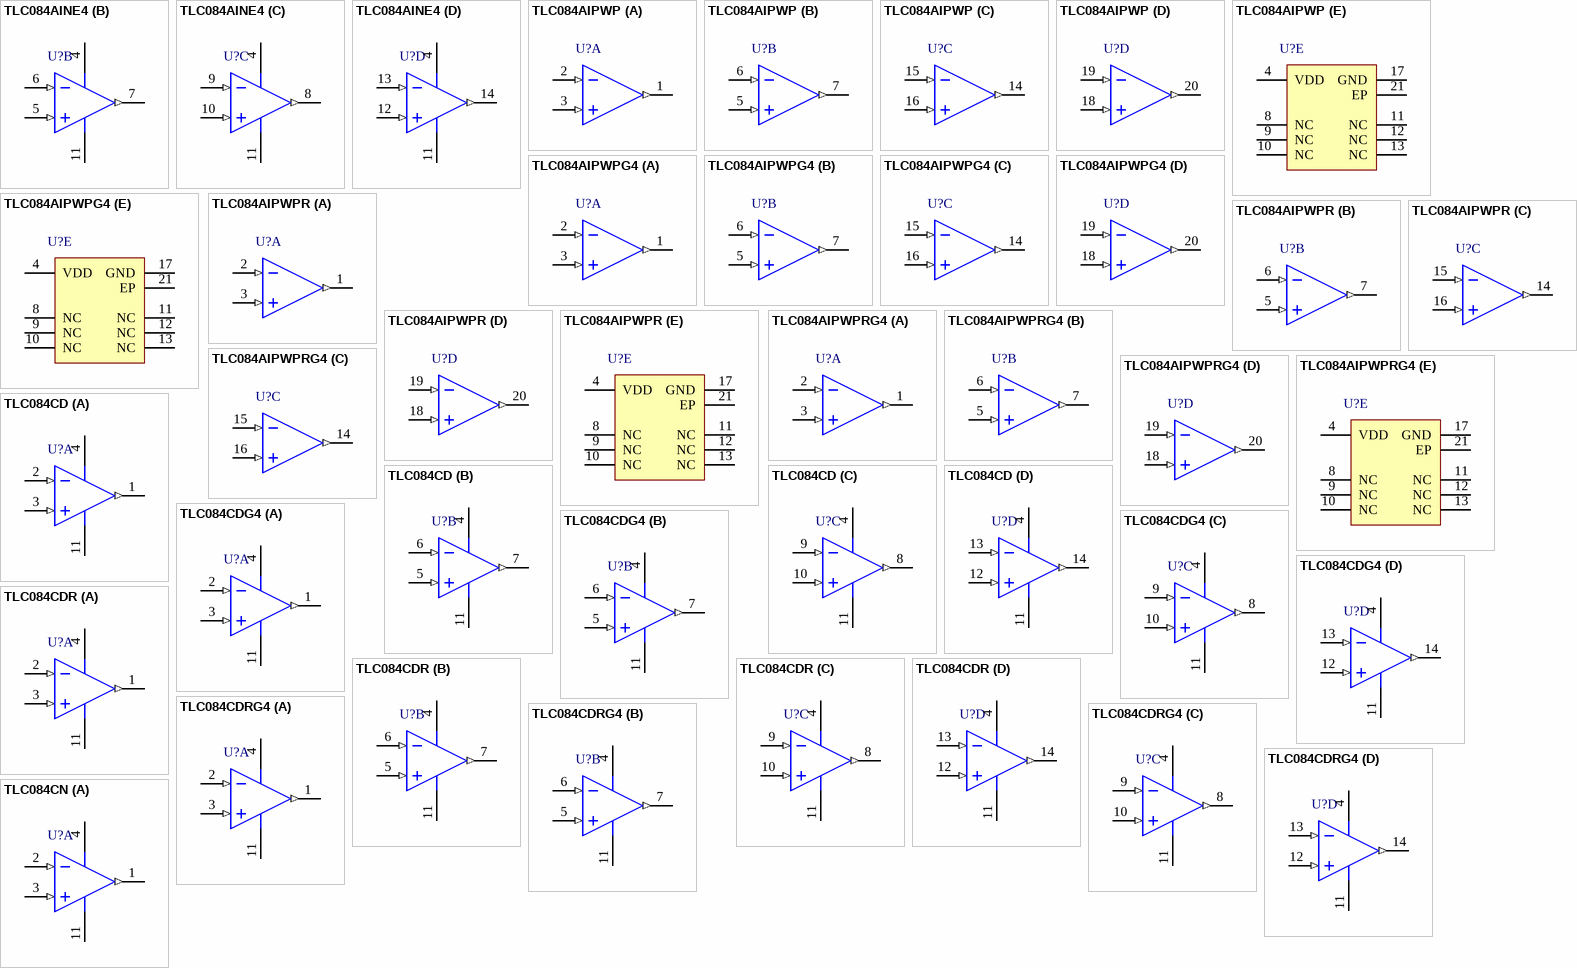
[diagram p41: symbols TLC084AINE4 to TLC084CN]

## TLC084AINE4
designator U?
Quad Wide Bandwidth High Output Drive Single Supply Operational Amplifier, 4.5 to 16 V, -40 to 125 degC, 14-pin DIP (N14), Pb-Free (RoHS); Manufacturer: Texas Instruments; PartNumber: TLC084AINE4; CMRR(Min)(dB): 80; GBW(Typ)(MHz): 10; IIB(Max)(pA): 50; Iq per channel(Max)(mA): 2.5; Number of Channels: 4; Offset Drift(Typ)(uV/C): 1.2; Packing: TUBE; Rating: Catalog; Slew Rate(Typ)(V/us): 16; Sub Family: High Output Current Amplifier (>=50mA), Low Noise Amp (<=10nV/rtHz), Precision Amplifier; Total Supply Voltage(Min)(+5V is 5, +/-5V is 10): 4.5; Vio (25C)(Max)(mV): 1.4; DatasheetVersion: SLOS254F; PackageVersion: 4040049/E, 12/2002; PackageReference: N14; PackageDescription: 14-Pin Plastic In-Line, Body 19.305 x 6.35 mm, Pitch 2.54 mm; Supplier 1: Digi-Key; Supplier Part Number 1: TLC084AINE4-ND; Supplier 2: Mouser; Supplier Part Number 2: 595-TLC084AINE4; Eco-Plan: Pb-Free (RoHS); Total Supply Voltage(Max)(+5V is 5, +/-5V is 10): 16; Mounting Technology: Through Hole; Code_JEDEC: MS-001; ComponentLink1Description: Manufacturer URL; ComponentLink1URL: http://www.ti.com/; ComponentLink2Description: Datasheet; ComponentLink2URL: http://www.ti.com/lit/ds/symlink/tlc084a.pdf; ComponentLink3Description: Package Specification; ComponentLink3URL: http://www.ti.com/lit/ml/mpdi002c/mpdi002c.pdf
footprint TI-N14 (DIP, 14-Leads, Body 19.305x6.35 mm, Pitch 2.54 mm)
pins on every part: 4 VDD (power), 11 GND (power)
part A pins: 1 OUT1 (out), 2 IN1- (in), 3 IN1+ (in)
part B pins: 5 IN2+ (in), 6 IN2- (in), 7 OUT2 (out)
part C pins: 8 OUT3 (out), 9 IN3- (in), 10 IN3+ (in)
part D pins: 12 IN4+ (in), 13 IN4- (in), 14 OUT4 (out)

## TLC084AIPWP
designator U?
Quad Wide Bandwidth High Output Drive Single Supply Operational Amplifier, 4.5 to 16 V, -40 to 125 degC, 20-pin SOP (PWP20), Green (RoHS & no Sb/Br); Manufacturer: Texas Instruments; PartNumber: TLC084AIPWP; CMRR(Min)(dB): 80; GBW(Typ)(MHz): 10; IIB(Max)(pA): 50; Iq per channel(Max)(mA): 2.5; Number of Channels: 4; Offset Drift(Typ)(uV/C): 1.2; Packing: TUBE; Rating: Catalog; Slew Rate(Typ)(V/us): 16; Sub Family: High Output Current Amplifier (>=50mA), Low Noise Amp (<=10nV/rtHz), Precision Amplifier; Total Supply Voltage(Min)(+5V is 5, +/-5V is 10): 4.5; Vio (25C)(Max)(mV): 1.4; DatasheetVersion: SLOS254F; PackageVersion: 4073225-4/I, 05/2011; PackageReference: PWP20-3005X2005TP; PackageDescription: 20-Pin Plastic Small Outline, Body 4.4 x 6.5 mm, Pitch 0.65 mm; Supplier 1: Digi-Key; Supplier Part Number 1: 296-7282-5-ND; Supplier 2: Mouser; Supplier Part Number 2: 595-TLC084AIPWP; Eco-Plan: Green (RoHS & no Sb/Br); Total Supply Voltage(Max)(+5V is 5, +/-5V is 10): 16; Mounting Technology: Surface Mount; Code_JEDEC: MO-153; ComponentLink1Description: Manufacturer URL; ComponentLink1URL: http://www.ti.com/; ComponentLink2Description: Datasheet; ComponentLink2URL: http://www.ti.com/lit/ds/symlink/tlc084a.pdf; ComponentLink3Description: Package Specification; ComponentLink3URL: http://www.ti.com/lit/ml/mhts001g/mhts001g.pdf
footprint TI-PWP20-3005X2005TP_N (SOP, 20-Leads, Body 6.5x4.4mm, Pitch 0.65mm, Thermal Pad 3.4x2.4mm, IPC Medium Density)
footprint TI-PWP20-3005X2005TP_L (SOP, 20-Leads, Body 6.5x4.4mm, Pitch 0.65mm, Thermal Pad 3.4x2.4mm, IPC High Density)
footprint TI-PWP20-3005X2005TP_M (SOP, 20-Leads, Body 6.5x4.4mm, Pitch 0.65mm, Thermal Pad 3.4x2.4mm, IPC Low Density)
part A pins: 1 OUT1 (out), 2 IN1- (in), 3 IN1+ (in)
part B pins: 5 IN2+ (in), 6 IN2- (in), 7 OUT2 (out)
part C pins: 14 OUT3 (out), 15 IN3- (in), 16 IN3+ (in)
part D pins: 18 IN4+ (in), 19 IN4- (in), 20 OUT4 (out)
part E pins: 4 VDD (power), 8 NC, 9 NC, 10 NC, 11 NC, 12 NC, 13 NC, 17 GND (power), 21 EP (power) "The PowerPAD must be connected to the most negative supply voltage (GND pin potential) of the device."

## TLC084AIPWPG4
designator U?
Quad Wide Bandwidth High Output Drive Single Supply Operational Amplifier, 4.5 to 16 V, -40 to 125 degC, 20-pin SOP (PWP20), Green (RoHS & no Sb/Br); Manufacturer: Texas Instruments; PartNumber: TLC084AIPWPG4; CMRR(Min)(dB): 80; GBW(Typ)(MHz): 10; IIB(Max)(pA): 50; Iq per channel(Max)(mA): 2.5; Number of Channels: 4; Offset Drift(Typ)(uV/C): 1.2; Packing: TUBE; Rating: Catalog; Slew Rate(Typ)(V/us): 16; Sub Family: High Output Current Amplifier (>=50mA), Low Noise Amp (<=10nV/rtHz), Precision Amplifier; Total Supply Voltage(Min)(+5V is 5, +/-5V is 10): 4.5; Vio (25C)(Max)(mV): 1.4; DatasheetVersion: SLOS254F; PackageVersion: 4073225-4/I, 05/2011; PackageReference: PWP20-3005X2005TP; PackageDescription: 20-Pin Plastic Small Outline, Body 4.4 x 6.5 mm, Pitch 0.65 mm; Supplier 1: Digi-Key; Supplier Part Number 1: TLC084AIPWPG4-ND; Supplier 2: Mouser; Supplier Part Number 2: 595-TLC084AIPWPG4; Eco-Plan: Green (RoHS & no Sb/Br); Total Supply Voltage(Max)(+5V is 5, +/-5V is 10): 16; Mounting Technology: Surface Mount; Code_JEDEC: MO-153; ComponentLink1Description: Manufacturer URL; ComponentLink1URL: http://www.ti.com/; ComponentLink2Description: Datasheet; ComponentLink2URL: http://www.ti.com/lit/ds/symlink/tlc084a.pdf; ComponentLink3Description: Package Specification; ComponentLink3URL: http://www.ti.com/lit/ml/mhts001g/mhts001g.pdf
footprint TI-PWP20-3005X2005TP_N (SOP, 20-Leads, Body 6.5x4.4mm, Pitch 0.65mm, Thermal Pad 3.4x2.4mm, IPC Medium Density)
footprint TI-PWP20-3005X2005TP_L (SOP, 20-Leads, Body 6.5x4.4mm, Pitch 0.65mm, Thermal Pad 3.4x2.4mm, IPC High Density)
footprint TI-PWP20-3005X2005TP_M (SOP, 20-Leads, Body 6.5x4.4mm, Pitch 0.65mm, Thermal Pad 3.4x2.4mm, IPC Low Density)
part A pins: 1 OUT1 (out), 2 IN1- (in), 3 IN1+ (in)
part B pins: 5 IN2+ (in), 6 IN2- (in), 7 OUT2 (out)
part C pins: 14 OUT3 (out), 15 IN3- (in), 16 IN3+ (in)
part D pins: 18 IN4+ (in), 19 IN4- (in), 20 OUT4 (out)
part E pins: 4 VDD (power), 8 NC, 9 NC, 10 NC, 11 NC, 12 NC, 13 NC, 17 GND (power), 21 EP (power) "The PowerPAD must be connected to the most negative supply voltage (GND pin potential) of the device."

## TLC084AIPWPR
designator U?
Quad Wide Bandwidth High Output Drive Single Supply Operational Amplifier, 4.5 to 16 V, -40 to 125 degC, 20-pin SOP (PWP20), Green (RoHS & no Sb/Br); Manufacturer: Texas Instruments; PartNumber: TLC084AIPWPR; CMRR(Min)(dB): 80; GBW(Typ)(MHz): 10; IIB(Max)(pA): 50; Iq per channel(Max)(mA): 2.5; Number of Channels: 4; Offset Drift(Typ)(uV/C): 1.2; Packing: LARGE T&R; Rating: Catalog; Slew Rate(Typ)(V/us): 16; Sub Family: High Output Current Amplifier (>=50mA), Low Noise Amp (<=10nV/rtHz), Precision Amplifier; Total Supply Voltage(Min)(+5V is 5, +/-5V is 10): 4.5; Vio (25C)(Max)(mV): 1.4; DatasheetVersion: SLOS254F; PackageVersion: 4073225-4/I, 05/2011; PackageReference: PWP20-3005X2005TP; PackageDescription: 20-Pin Plastic Small Outline, Body 4.4 x 6.5 mm, Pitch 0.65 mm; Supplier 1: Digi-Key; Supplier Part Number 1: 296-31954-2-ND; Supplier 2: Digi-Key; Supplier Part Number 2: 296-31954-1-ND; Supplier 3: Digi-Key; Supplier Part Number 3: 296-31954-6-ND; Supplier 4: Mouser; Supplier Part Number 4: 595-TLC084AIPWPR; Eco-Plan: Green (RoHS & no Sb/Br); Total Supply Voltage(Max)(+5V is 5, +/-5V is 10): 16; Mounting Technology: Surface Mount; Code_JEDEC: MO-153; ComponentLink1Description: Manufacturer URL; ComponentLink1URL: http://www.ti.com/; ComponentLink2Description: Datasheet; ComponentLink2URL: http://www.ti.com/lit/ds/symlink/tlc084a.pdf; ComponentLink3Description: Package Specification; ComponentLink3URL: http://www.ti.com/lit/ml/mhts001g/mhts001g.pdf
footprint TI-PWP20-3005X2005TP_N (SOP, 20-Leads, Body 6.5x4.4mm, Pitch 0.65mm, Thermal Pad 3.4x2.4mm, IPC Medium Density)
footprint TI-PWP20-3005X2005TP_L (SOP, 20-Leads, Body 6.5x4.4mm, Pitch 0.65mm, Thermal Pad 3.4x2.4mm, IPC High Density)
footprint TI-PWP20-3005X2005TP_M (SOP, 20-Leads, Body 6.5x4.4mm, Pitch 0.65mm, Thermal Pad 3.4x2.4mm, IPC Low Density)
part A pins: 1 OUT1 (out), 2 IN1- (in), 3 IN1+ (in)
part B pins: 5 IN2+ (in), 6 IN2- (in), 7 OUT2 (out)
part C pins: 14 OUT3 (out), 15 IN3- (in), 16 IN3+ (in)
part D pins: 18 IN4+ (in), 19 IN4- (in), 20 OUT4 (out)
part E pins: 4 VDD (power), 8 NC, 9 NC, 10 NC, 11 NC, 12 NC, 13 NC, 17 GND (power), 21 EP (power) "The PowerPAD must be connected to the most negative supply voltage (GND pin potential) of the device."

## TLC084AIPWPRG4
designator U?
Quad Wide Bandwidth High Output Drive Single Supply Operational Amplifier, 4.5 to 16 V, -40 to 125 degC, 20-pin SOP (PWP20), Green (RoHS & no Sb/Br); Manufacturer: Texas Instruments; PartNumber: TLC084AIPWPRG4; CMRR(Min)(dB): 80; GBW(Typ)(MHz): 10; IIB(Max)(pA): 50; Iq per channel(Max)(mA): 2.5; Number of Channels: 4; Offset Drift(Typ)(uV/C): 1.2; Packing: LARGE T&R; Rating: Catalog; Slew Rate(Typ)(V/us): 16; Sub Family: High Output Current Amplifier (>=50mA), Low Noise Amp (<=10nV/rtHz), Precision Amplifier; Total Supply Voltage(Min)(+5V is 5, +/-5V is 10): 4.5; Vio (25C)(Max)(mV): 1.4; DatasheetVersion: SLOS254F; PackageVersion: 4073225-4/I, 05/2011; PackageReference: PWP20-3005X2005TP; PackageDescription: 20-Pin Plastic Small Outline, Body 4.4 x 6.5 mm, Pitch 0.65 mm; Supplier 1: Digi-Key; Supplier Part Number 1: TLC084AIPWPRG4-ND; Supplier 2: Mouser; Supplier Part Number 2: 595-TLC084AIPWPRG4; Eco-Plan: Green (RoHS & no Sb/Br); Total Supply Voltage(Max)(+5V is 5, +/-5V is 10): 16; Mounting Technology: Surface Mount; Code_JEDEC: MO-153; ComponentLink1Description: Manufacturer URL; ComponentLink1URL: http://www.ti.com/; ComponentLink2Description: Datasheet; ComponentLink2URL: http://www.ti.com/lit/ds/symlink/tlc084a.pdf; ComponentLink3Description: Package Specification; ComponentLink3URL: http://www.ti.com/lit/ml/mhts001g/mhts001g.pdf
footprint TI-PWP20-3005X2005TP_N (SOP, 20-Leads, Body 6.5x4.4mm, Pitch 0.65mm, Thermal Pad 3.4x2.4mm, IPC Medium Density)
footprint TI-PWP20-3005X2005TP_L (SOP, 20-Leads, Body 6.5x4.4mm, Pitch 0.65mm, Thermal Pad 3.4x2.4mm, IPC High Density)
footprint TI-PWP20-3005X2005TP_M (SOP, 20-Leads, Body 6.5x4.4mm, Pitch 0.65mm, Thermal Pad 3.4x2.4mm, IPC Low Density)
part A pins: 1 OUT1 (out), 2 IN1- (in), 3 IN1+ (in)
part B pins: 5 IN2+ (in), 6 IN2- (in), 7 OUT2 (out)
part C pins: 14 OUT3 (out), 15 IN3- (in), 16 IN3+ (in)
part D pins: 18 IN4+ (in), 19 IN4- (in), 20 OUT4 (out)
part E pins: 4 VDD (power), 8 NC, 9 NC, 10 NC, 11 NC, 12 NC, 13 NC, 17 GND (power), 21 EP (power) "The PowerPAD must be connected to the most negative supply voltage (GND pin potential) of the device."

## TLC084CD
designator U?
Quad Wide Bandwidth High Output Drive Single Supply Operational Amplifier, 4.5 to 16 V, 0 to 70 degC, 14-pin SOIC (D14), Green (RoHS & no Sb/Br); Manufacturer: Texas Instruments; PartNumber: TLC084CD; CMRR(Min)(dB): 80; GBW(Typ)(MHz): 10; IIB(Max)(pA): 50; Iq per channel(Max)(mA): 2.5; Number of Channels: 4; Offset Drift(Typ)(uV/C): 1.2; Packing: TUBE; Rating: Catalog; Slew Rate(Typ)(V/us): 16; Sub Family: High Output Current Amplifier (>=50mA), Low Noise Amp (<=10nV/rtHz), Precision Amplifier; Total Supply Voltage(Min)(+5V is 5, +/-5V is 10): 4.5; Vio (25C)(Max)(mV): 1.9; DatasheetVersion: SLOS254F; PackageVersion: 4040047-5/M, 06/2011; PackageReference: D14; PackageDescription: 14-Pin Plastic Small Outline, Body 8.65 x 3.9 mm, Pitch 1.27 mm; Supplier 1: Digi-Key; Supplier Part Number 1: 296-2423-5-ND; Supplier 2: Farnell; Supplier Part Number 2: 1648721; Supplier 3: Newark; Supplier Part Number 3: 85P0374; Supplier 4: Newark; Supplier Part Number 4: 19C8992; Supplier 5: Mouser; Supplier Part Number 5: 595-TLC084CD; Eco-Plan: Green (RoHS & no Sb/Br); Total Supply Voltage(Max)(+5V is 5, +/-5V is 10): 16; Mounting Technology: Surface Mount; Code_JEDEC: MS-012; ComponentLink1Description: Manufacturer URL; ComponentLink1URL: http://www.ti.com/; ComponentLink2Description: Datasheet; ComponentLink2URL: http://www.ti.com/lit/ds/symlink/tlc084.pdf; ComponentLink3Description: Package Specification; ComponentLink3URL: http://www.ti.com/lit/ml/mpds177g/mpds177g.pdf
footprint TI-D14_N (SOIC, 14-Leads, Body 8.65x3.9mm, Pitch 1.27mm, IPC Medium Density)
footprint TI-D14_L (SOIC, 14-Leads, Body 8.65x3.9mm, Pitch 1.27mm, IPC High Density)
footprint TI-D14_M (SOIC, 14-Leads, Body 8.65x3.9mm, Pitch 1.27mm, IPC Low Density)
pins on every part: 4 VDD (power), 11 GND (power)
part A pins: 1 OUT1 (out), 2 IN1- (in), 3 IN1+ (in)
part B pins: 5 IN2+ (in), 6 IN2- (in), 7 OUT2 (out)
part C pins: 8 OUT3 (out), 9 IN3- (in), 10 IN3+ (in)
part D pins: 12 IN4+ (in), 13 IN4- (in), 14 OUT4 (out)

## TLC084CDG4
designator U?
Quad Wide Bandwidth High Output Drive Single Supply Operational Amplifier, 4.5 to 16 V, 0 to 70 degC, 14-pin SOIC (D14), Green (RoHS & no Sb/Br); Manufacturer: Texas Instruments; PartNumber: TLC084CDG4; CMRR(Min)(dB): 80; GBW(Typ)(MHz): 10; IIB(Max)(pA): 50; Iq per channel(Max)(mA): 2.5; Number of Channels: 4; Offset Drift(Typ)(uV/C): 1.2; Packing: TUBE; Rating: Catalog; Slew Rate(Typ)(V/us): 16; Sub Family: High Output Current Amplifier (>=50mA), Low Noise Amp (<=10nV/rtHz), Precision Amplifier; Total Supply Voltage(Min)(+5V is 5, +/-5V is 10): 4.5; Vio (25C)(Max)(mV): 1.9; DatasheetVersion: SLOS254F; PackageVersion: 4040047-5/M, 06/2011; PackageReference: D14; PackageDescription: 14-Pin Plastic Small Outline, Body 8.65 x 3.9 mm, Pitch 1.27 mm; Supplier 1: Digi-Key; Supplier Part Number 1: TLC084CDG4-ND; Supplier 2: Newark; Supplier Part Number 2: 66K4336; Supplier 3: Mouser; Supplier Part Number 3: 595-TLC084CDG4; Eco-Plan: Green (RoHS & no Sb/Br); Total Supply Voltage(Max)(+5V is 5, +/-5V is 10): 16; Mounting Technology: Surface Mount; Code_JEDEC: MS-012; ComponentLink1Description: Manufacturer URL; ComponentLink1URL: http://www.ti.com/; ComponentLink2Description: Datasheet; ComponentLink2URL: http://www.ti.com/lit/ds/symlink/tlc084.pdf; ComponentLink3Description: Package Specification; ComponentLink3URL: http://www.ti.com/lit/ml/mpds177g/mpds177g.pdf
footprint TI-D14_N (SOIC, 14-Leads, Body 8.65x3.9mm, Pitch 1.27mm, IPC Medium Density)
footprint TI-D14_L (SOIC, 14-Leads, Body 8.65x3.9mm, Pitch 1.27mm, IPC High Density)
footprint TI-D14_M (SOIC, 14-Leads, Body 8.65x3.9mm, Pitch 1.27mm, IPC Low Density)
pins on every part: 4 VDD (power), 11 GND (power)
part A pins: 1 OUT1 (out), 2 IN1- (in), 3 IN1+ (in)
part B pins: 5 IN2+ (in), 6 IN2- (in), 7 OUT2 (out)
part C pins: 8 OUT3 (out), 9 IN3- (in), 10 IN3+ (in)
part D pins: 12 IN4+ (in), 13 IN4- (in), 14 OUT4 (out)

## TLC084CDR
designator U?
Quad Wide Bandwidth High Output Drive Single Supply Operational Amplifier, 4.5 to 16 V, 0 to 70 degC, 14-pin SOIC (D14), Green (RoHS & no Sb/Br); Manufacturer: Texas Instruments; PartNumber: TLC084CDR; CMRR(Min)(dB): 80; GBW(Typ)(MHz): 10; IIB(Max)(pA): 50; Iq per channel(Max)(mA): 2.5; Number of Channels: 4; Offset Drift(Typ)(uV/C): 1.2; Packing: LARGE T&R; Rating: Catalog; Slew Rate(Typ)(V/us): 16; Sub Family: High Output Current Amplifier (>=50mA), Low Noise Amp (<=10nV/rtHz), Precision Amplifier; Total Supply Voltage(Min)(+5V is 5, +/-5V is 10): 4.5; Vio (25C)(Max)(mV): 1.9; DatasheetVersion: SLOS254F; PackageVersion: 4040047-5/M, 06/2011; PackageReference: D14; PackageDescription: 14-Pin Plastic Small Outline, Body 8.65 x 3.9 mm, Pitch 1.27 mm; Supplier 1: Digi-Key; Supplier Part Number 1: 296-2423-2-ND; Supplier 2: Digi-Key; Supplier Part Number 2: 296-2423-1-ND; Supplier 3: Digi-Key; Supplier Part Number 3: 296-2423-6-ND; Supplier 4: Newark; Supplier Part Number 4: 76C6769; Supplier 5: Mouser; Supplier Part Number 5: 595-TLC084CDR; Eco-Plan: Green (RoHS & no Sb/Br); Total Supply Voltage(Max)(+5V is 5, +/-5V is 10): 16; Mounting Technology: Surface Mount; Code_JEDEC: MS-012; ComponentLink1Description: Manufacturer URL; ComponentLink1URL: http://www.ti.com/; ComponentLink2Description: Datasheet; ComponentLink2URL: http://www.ti.com/lit/ds/symlink/tlc084.pdf; ComponentLink3Description: Package Specification; ComponentLink3URL: http://www.ti.com/lit/ml/mpds177g/mpds177g.pdf
footprint TI-D14_N (SOIC, 14-Leads, Body 8.65x3.9mm, Pitch 1.27mm, IPC Medium Density)
footprint TI-D14_L (SOIC, 14-Leads, Body 8.65x3.9mm, Pitch 1.27mm, IPC High Density)
footprint TI-D14_M (SOIC, 14-Leads, Body 8.65x3.9mm, Pitch 1.27mm, IPC Low Density)
pins on every part: 4 VDD (power), 11 GND (power)
part A pins: 1 OUT1 (out), 2 IN1- (in), 3 IN1+ (in)
part B pins: 5 IN2+ (in), 6 IN2- (in), 7 OUT2 (out)
part C pins: 8 OUT3 (out), 9 IN3- (in), 10 IN3+ (in)
part D pins: 12 IN4+ (in), 13 IN4- (in), 14 OUT4 (out)

## TLC084CDRG4
designator U?
Quad Wide Bandwidth High Output Drive Single Supply Operational Amplifier, 4.5 to 16 V, 0 to 70 degC, 14-pin SOIC (D14), Green (RoHS & no Sb/Br); Manufacturer: Texas Instruments; PartNumber: TLC084CDRG4; CMRR(Min)(dB): 80; GBW(Typ)(MHz): 10; IIB(Max)(pA): 50; Iq per channel(Max)(mA): 2.5; Number of Channels: 4; Offset Drift(Typ)(uV/C): 1.2; Packing: LARGE T&R; Rating: Catalog; Slew Rate(Typ)(V/us): 16; Sub Family: High Output Current Amplifier (>=50mA), Low Noise Amp (<=10nV/rtHz), Precision Amplifier; Total Supply Voltage(Min)(+5V is 5, +/-5V is 10): 4.5; Vio (25C)(Max)(mV): 1.9; DatasheetVersion: SLOS254F; PackageVersion: 4040047-5/M, 06/2011; PackageReference: D14; PackageDescription: 14-Pin Plastic Small Outline, Body 8.65 x 3.9 mm, Pitch 1.27 mm; Supplier 1: Digi-Key; Supplier Part Number 1: TLC084CDRG4-ND; Supplier 2: Mouser; Supplier Part Number 2: 595-TLC084CDRG4; Eco-Plan: Green (RoHS & no Sb/Br); Total Supply Voltage(Max)(+5V is 5, +/-5V is 10): 16; Mounting Technology: Surface Mount; Code_JEDEC: MS-012; ComponentLink1Description: Manufacturer URL; ComponentLink1URL: http://www.ti.com/; ComponentLink2Description: Datasheet; ComponentLink2URL: http://www.ti.com/lit/ds/symlink/tlc084.pdf; ComponentLink3Description: Package Specification; ComponentLink3URL: http://www.ti.com/lit/ml/mpds177g/mpds177g.pdf
footprint TI-D14_N (SOIC, 14-Leads, Body 8.65x3.9mm, Pitch 1.27mm, IPC Medium Density)
footprint TI-D14_L (SOIC, 14-Leads, Body 8.65x3.9mm, Pitch 1.27mm, IPC High Density)
footprint TI-D14_M (SOIC, 14-Leads, Body 8.65x3.9mm, Pitch 1.27mm, IPC Low Density)
pins on every part: 4 VDD (power), 11 GND (power)
part A pins: 1 OUT1 (out), 2 IN1- (in), 3 IN1+ (in)
part B pins: 5 IN2+ (in), 6 IN2- (in), 7 OUT2 (out)
part C pins: 8 OUT3 (out), 9 IN3- (in), 10 IN3+ (in)
part D pins: 12 IN4+ (in), 13 IN4- (in), 14 OUT4 (out)

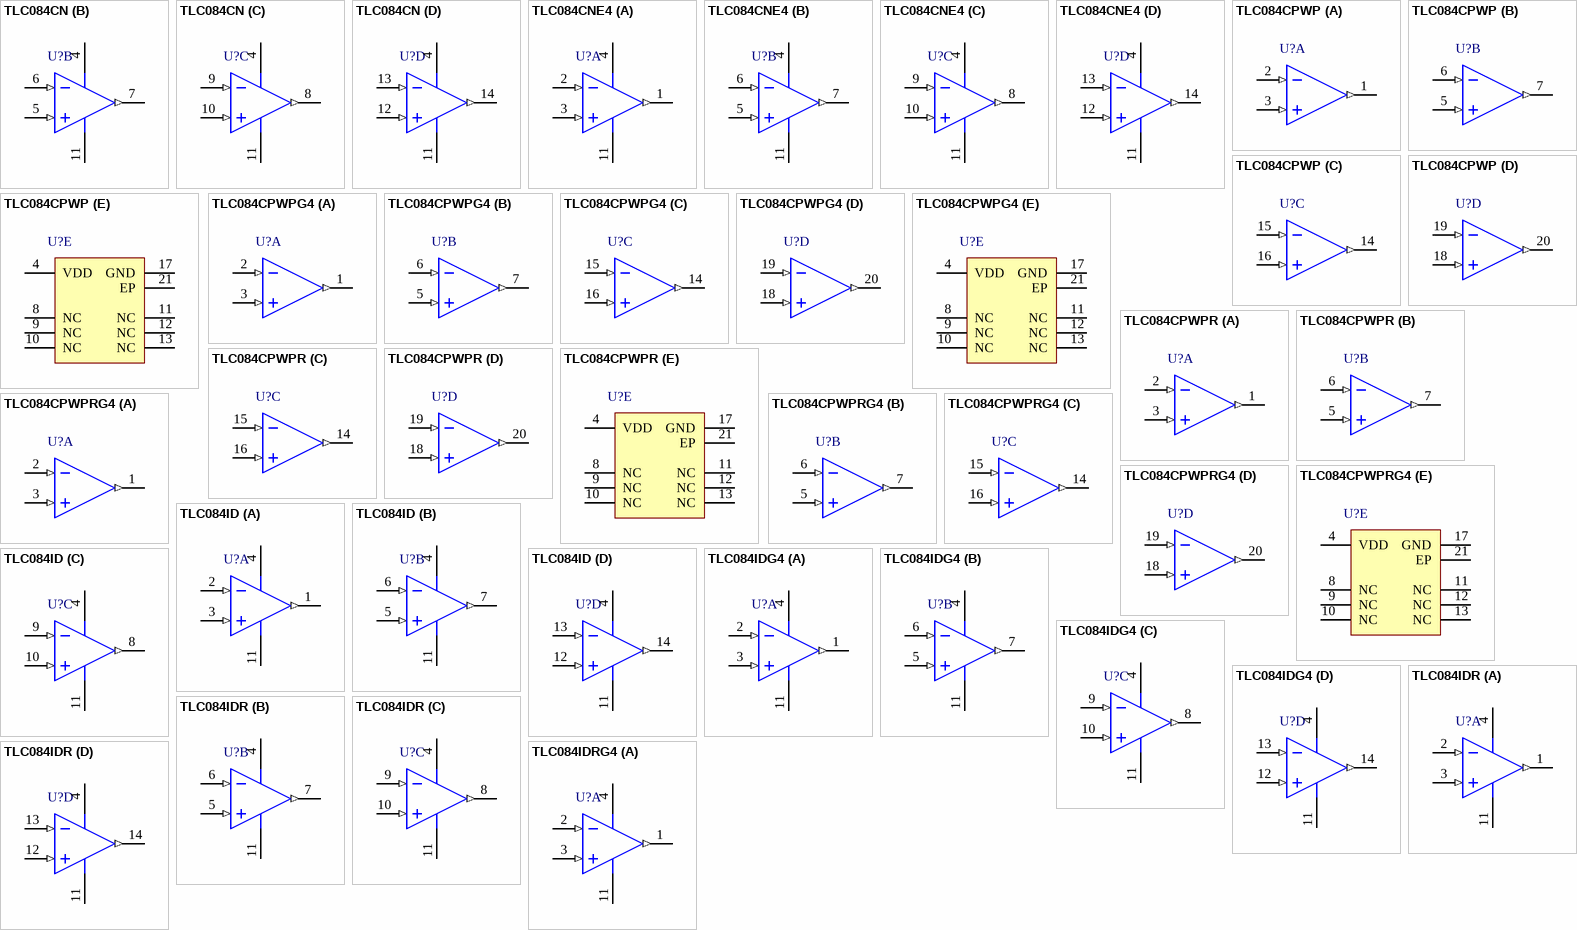
[diagram p42: symbols TLC084CN to TLC084IDRG4]